# Altium footprint library Inductors_TH.PcbLib: 26 footprints (part 2 of 2)
Each footprint in its own frame and in the unit in brackets; x right, y up, seen from the top. Pads: shape width x height; smd on the part's side, far side on the other; paste and mask are expansions set on the pad; w line width, h text height; cw(c..) or ccw(c..) is an arc to the next point about the centre after c.
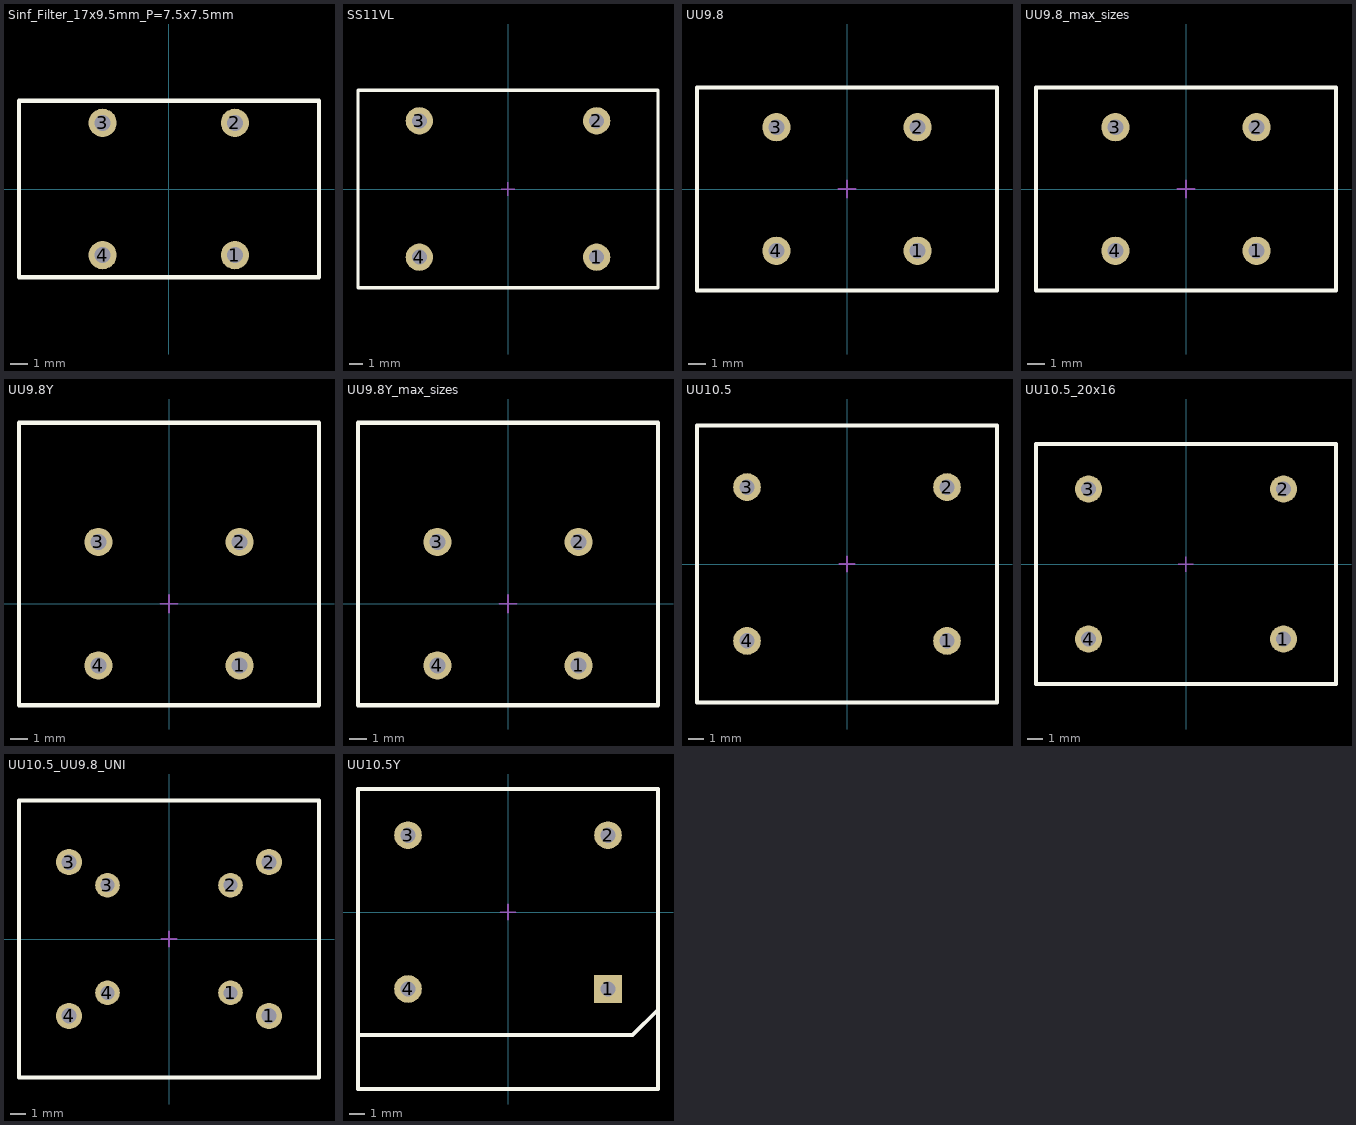
[diagram p1: the footprints below, top view; thin cyan lines are the x and y axes]

## Sinf_Filter_17x9.5mm_P=7.5x7.5mm [mm]
height 23
pads (4):
  round 1.6 hole 0.9: 1(3.75,-3.75) 2(3.75,3.75) 3(-3.75,3.75) 4(-3.75,-3.75)
Top Overlay:
  lines w0.25: -8.486,-5 8.514,-5 8.514,5 -8.486,5 -8.486,-5
3D body: height 17, standoff 1, extent -7.986,-4.5 8.014,4.5
3D body: height 5, standoff 0, extent -6,-5 6,5

## SS11VL [mm]
pads (4):
  round 2 hole 1.1: 1(6.5,-5) 2(6.5,5) 3(-6.5,5) 4(-6.5,-5)
Top Overlay:
  lines w0.25: -11,-7.25 11,-7.25 11,7.25 -11,7.25 -11,-7.25
Mechanical 15:
  lines w0.1: -0.5,0 0.5,0 ; 0,-0.5 0,0.5
3D body: height 19.5, standoff 5, extent -9,-7.347 -2,7.147
3D body: height 9, standoff 0, extent -11,-7.25 11,7.25
3D body: height 0, standoff -2.5, extent -6.897,-5.399 -6.1,-4.601
3D body: height 0, standoff -2.5, extent 6.103,-5.399 6.9,-4.601
3D body: height 0, standoff -2.5, extent -6.897,4.601 -6.1,5.399
3D body: height 0, standoff -2.5, extent 6.103,4.601 6.9,5.399
3D body: height 19.5, standoff 5, extent -2,-7.247 2,7.247
3D body: height 19.5, standoff 5, extent 2,-7.347 9,7.147

## UU9.8 [mm]
height 17
pads (4):
  round 1.6 hole 0.9: 1(4,-3.5) 2(4,3.5) 3(-4,3.5) 4(-4,-3.5)
Top Overlay:
  lines w0.25: -8.5,-5.75 -8.5,5.75 8.5,5.75 8.5,-5.75 -8.5,-5.75
Mechanical 15:
  lines w0.1: -0.5,0 0.5,0 ; 0,-0.5 0,0.5
3D body "User Library-UF9_8.STEP": height 17.5, standoff -0.8, extent -8.076,-5.3 8.081,5.3

## UU9.8_max_sizes [mm]
height 17.5
pads (4):
  round 1.6 hole 0.9: 1(4,-3.5) 2(4,3.5) 3(-4,3.5) 4(-4,-3.5)
Top Overlay:
  lines w0.25: -8.5,-5.75 -8.5,5.75 8.5,5.75 8.5,-5.75 ; -8.5,-5.75 8.5,-5.75 ; -8.5,-5.75 8.5,-5.75
Mechanical 15:
  lines w0.1: -0.5,0 0.5,0 -0.5,0 ; 0,-0.5 0,0.5 0,-0.5
3D body "User Library-UF9_8.STEP": height 17.5, standoff -0.8, extent -8.076,-5.3 8.081,5.3
3D body: height 14, standoff 0, extent -0.7,0 0.7,5.75
3D body: height 14, standoff 0, extent -0.7,-5.75 0.7,0
3D body: height 14, standoff 0, extent 2.8,0 8.5,5.75
3D body: height 14, standoff 0, extent 2.8,-5.75 8.5,0
3D body: height 14, standoff 0, extent -8.5,-5.75 -2.8,0
3D body: height 14, standoff 0, extent -8.5,0 -2.8,5.75

## UU9.8Y [mm]
height 17
pads (4):
  round 1.6 hole 0.9: 1(4,-3.5) 2(4,3.5) 3(-4,3.5) 4(-4,-3.5)
Top Overlay:
  lines w0.25: -8.5,-5.75 -8.5,10.25 8.5,10.25 8.5,-5.75 -8.5,-5.75
Mechanical 15:
  lines w0.1: -0.5,0 0.5,0 ; 0,-0.5 0,0.5
3D body "User Library-UF9_8Y.stp": height 12.72, standoff -2.28, extent -8.077,-5.3 8.077,8.95

## UU9.8Y_max_sizes [mm]
height 14
pads (4):
  round 1.6 hole 0.9: 1(4,-3.5) 2(4,3.5) 3(-4,3.5) 4(-4,-3.5)
Top Overlay:
  lines w0.25: -8.5,-5.75 -8.5,10.25 8.5,10.25 8.5,-5.75 -8.5,-5.75
Mechanical 15:
  lines w0.1: -0.5,0 0.5,0 ; 0,-0.5 0,0.5
3D body: height 14, standoff 0, extent -0.7,0 0.7,5.75
3D body: height 8.5, standoff 5.5, extent -8.5,-1.5 8.5,10.25
3D body "User Library-UF9_8Y.stp": height 12.72, standoff -2.28, extent -8.077,-5.3 8.077,8.95
3D body: height 14, standoff 0, extent -0.7,-5.75 0.7,0
3D body: height 14, standoff 0, extent 2.8,0 8.5,5.75
3D body: height 14, standoff 0, extent 2.8,-5.75 8.5,0
3D body: height 14, standoff 0, extent -8.5,-5.75 -2.8,0
3D body: height 14, standoff 0, extent -8.5,0 -2.8,5.75

## UU10.5 [mm]
height 23
pads (4):
  round 1.8 hole 1: 1(6.5,-5) 2(6.5,5) 3(-6.5,5) 4(-6.5,-5)
Top Overlay:
  lines w0.25: -9.75,-9 -9.75,9 9.75,9 9.75,-9 -9.75,-9
Mechanical 15:
  lines w0.1: -0.5,0 0.5,0 ; 0,-0.5 0,0.5
3D body "UU10.5.STEP": height 23, standoff -4.5, extent -9.764,-9 9.736,9

## UU10.5_20x16 [mm]
height 21
pads (4):
  round 1.8 hole 1: 1(6.5,-5) 2(6.5,5) 3(-6.5,5) 4(-6.5,-5)
Top Overlay:
  lines w0.25: -10,-8 -10,8 10,8 10,-8 -10,-8
Mechanical 15:
  lines w0.1: -0.5,0 0.5,0 ; 0,-0.5 0,0.5
3D body: height 21, standoff 5, extent 1,-8 8,8
3D body: height 21, standoff 5, extent 8,-8 10,8
3D body: height 21, standoff 5, extent -10,-8 -8,8
3D body: height 23, standoff 0, extent -10,-3.5 10,3.5
3D body: height 21, standoff 5, extent -1,-8 1,8
3D body: height 9, standoff 0, extent -10,-8 10,8
3D body: height 21, standoff 5, extent -8,-8 -1,8
3D body: height 0, standoff -2.5, extent 6.153,-5.349 6.85,-4.65
3D body: height 0, standoff -2.5, extent 6.153,4.651 6.85,5.35
3D body: height 0, standoff -2.5, extent -6.847,4.651 -6.15,5.35
3D body: height 0, standoff -2.5, extent -6.847,-5.349 -6.15,-4.65

## UU10.5_UU9.8_UNI [mm]
height 23
pads (8):
  round 1.6 hole 0.9: 1(4,-3.5) 2(4,3.5) 3(-4,3.5) 4(-4,-3.5)
  round 1.7 hole 1: 1(6.5,-5) 2(6.5,5) 3(-6.5,5) 4(-6.5,-5)
Top Overlay:
  lines w0.25: -9.75,-9 -9.75,9 9.75,9 9.75,-9 -9.75,-9
Mechanical 15:
  lines w0.1: -0.5,0 0.5,0 ; 0,-0.5 0,0.5
3D body "UU10.5.STEP": height 23, standoff -4.5, extent -9.764,-9 9.736,9

## UU10.5Y [mm]
height 17
pads (4):
  rect 1.8x1.8 hole 1: 1(6.5,-5)
  round 1.8 hole 1: 2(6.5,5) 3(-6.5,5) 4(-6.5,-5)
Top Overlay:
  lines w0.25: -9.75,-8 8.1,-8 9.75,-6.35 ; -9.75,-11.5 9.75,-11.5 9.75,8 -9.75,8 -9.75,-11.5
Mechanical 15:
  lines w0.1: -0.5,0 0.5,0 ; 0,-0.5 0,0.5
3D body "UU10.5Y.STEP": height 17.5, standoff -3.5, extent -9.764,-11.5 9.736,8